# Altium schematic symbol library ic.SchLib: 16 symbols
Pins are listed as number, name and electrical type; pins without a type are passive.

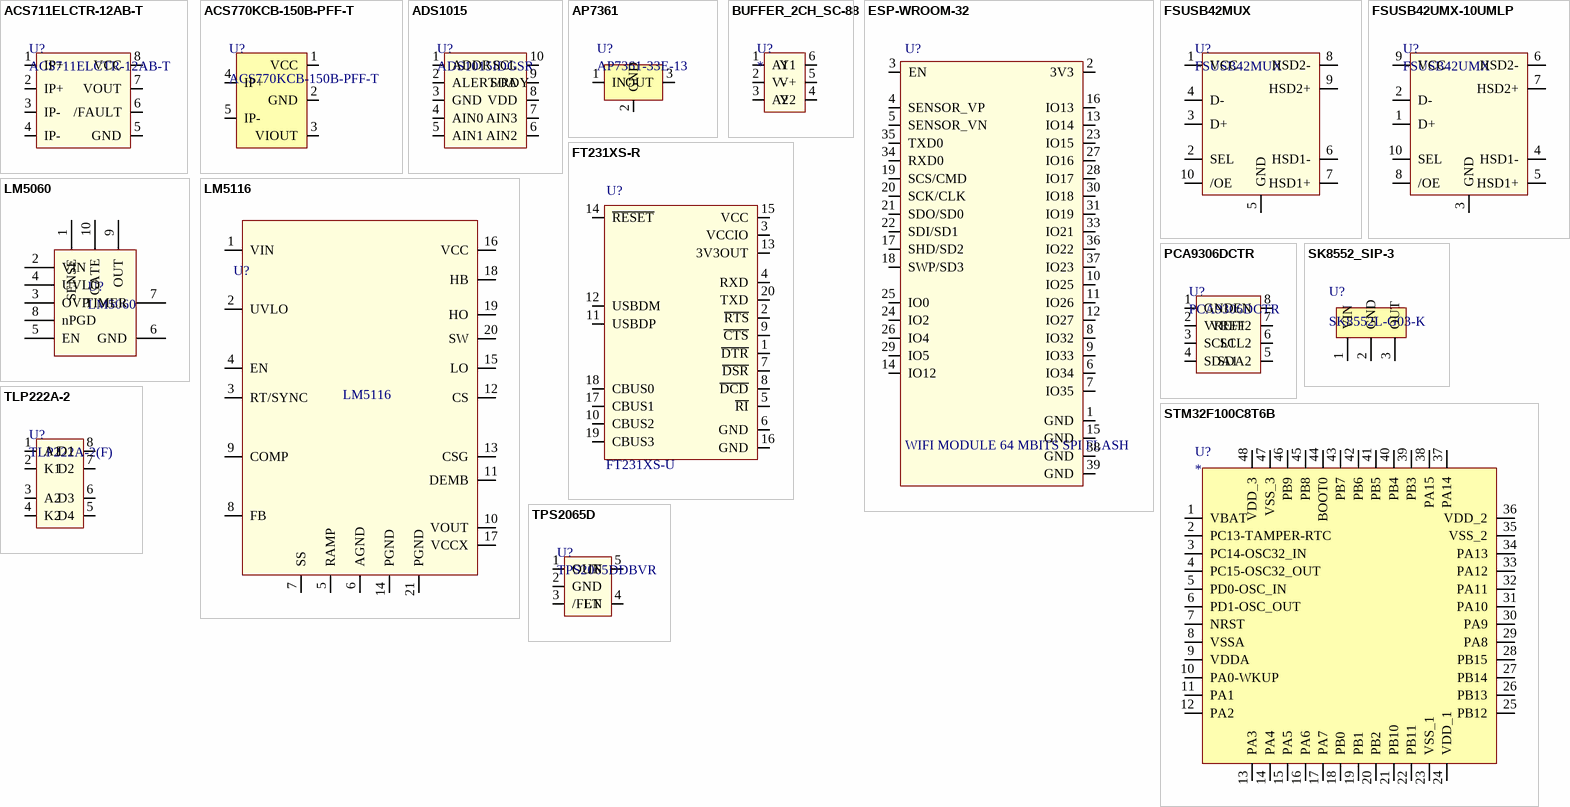
[diagram p0: symbols ACS711ELCTR-12AB-T to TPS2065D]

## ACS711ELCTR-12AB-T
designator U?
Current Sensor 12.5A 1 Channel Hall Effect, Open Loop Bidirectional 8-SOIC (0.154", 3.90mm Width); Manufacturer 1: Allegro MicroSystems, LLC; Manufacturer Part Number 1: ACS711ELCTR-12AB-T; Supplier 1: Digi-Key; Supplier Part Number 1: 620-1370-1-ND
footprint SOIC-8
pins: 1 IP+, 2 IP+, 3 IP-, 4 IP-, 5 GND, 6 /FAULT, 7 VOUT, 8 VCC

## ACS770KCB-150B-PFF-T
designator U?
Current Sensor 150A 1 Channel Hall Effect, Open Loop Bidirectional 5-CB Formed Leads, PFF; Manufacturer 1: Allegro MicroSystems, LLC; Manufacturer Part Number 1: ACS770KCB-150B-PFF-T; Supplier Part Number 1: 620-1540-5-ND; Supplier 1: Digi-Key
footprint ACS781LLRTR-100B-T
pins: 1 VCC, 2 GND, 3 VIOUT, 4 IP+, 5 IP-

## ADS1015
designator U?, comment ADS1015IDGSR
IC ADC 12BIT SIGMA-DELTA 10VSSOP; Manufacturer 1: Texas Instruments; Manufacturer Part Number 1: ADS1015IDGSR; Supplier 1: Digi-Key; Supplier Part Number 1: 296-41185-1-ND
footprint MSOP-10
pins: 1 ADDR, 2 ALERT/RDY, 3 GND, 4 AIN0, 5 AIN1, 6 AIN2, 7 AIN3, 8 VDD, 9 SDA, 10 SCL

## AP7361
designator U?, comment AP7361-33E-13
IC REG LINEAR 3.3V 1A SOT223; Manufacturer 1: Diodes Incorporated; Manufacturer Part Number 1: AP7361-33E-13; Supplier Part Number 1: AP7361-33E-13DICT-ND; Supplier 1: Digi-Key
footprint SOT-223
pins: 1 IN, 2 GND, 3 OUT

## BUFFER_2CH_SC-88
designator U?
Manufacturer 1: *; Manufacturer Part Number 1: *; Supplier Part Number 1: *; Parameter 4: *
footprint SC-88
pins: 1 A1, 2 V-, 3 A2, 4 Y2, 5 V+, 6 Y1

## ESP-WROOM-32
designator U?, comment WIFI MODULE 64 MBITS SPI FLASH
Manufacturer 1: Espressif Systems; Manufacturer Part Number 1: ESP32-WROOM-32 (8MB); Supplier Part Number 1: 1904-1019-1-ND; Supplier 1: Digi-Key
footprint ESP32-WROOM-32
pins: 1 GND, 2 3V3, 3 EN, 4 SENSOR_VP, 5 SENSOR_VN, 6 IO34, 7 IO35, 8 IO32, 9 IO33, 10 IO25, 11 IO26, 12 IO27, 13 IO14, 14 IO12, 15 GND, 16 IO13, 17 SHD/SD2, 18 SWP/SD3, 19 SCS/CMD, 20 SCK/CLK, 21 SDO/SD0, 22 SDI/SD1, 23 IO15, 24 IO2, 25 IO0, 26 IO4, 27 IO16, 28 IO17, 29 IO5, 30 IO18, 31 IO19, 33 IO21, 34 RXD0, 35 TXD0, 36 IO22, 37 IO23, 38 GND, 39 GND

## FSUSB42MUX
designator U?
IC USB SWITCH DPDT 10MSOP; Manufacturer 1: ON Semiconductor; Manufacturer Part Number 1: FSUSB42MUX; Supplier 1: Digi-Key; Supplier Part Number 1: FSUSB42MUXCT-ND
footprint MSOP-10
pins: 1 VCC, 2 SEL, 3 D+, 4 D-, 5 GND, 6 HSD1-, 7 HSD1+, 8 HSD2-, 9 HSD2+, 10 /OE

## FSUSB42UMX-10UMLP
designator U?, comment FSUSB42UMX
IC USB SWITCH DPDT 10UMLP; Manufacturer 1: ON Semiconductor; Manufacturer Part Number 1: FSUSB42UMX; Supplier 1: Digi-Key; Supplier Part Number 1: FSUSB42UMXCT-ND
footprint UFQFN-10
pins: 1 D+, 2 D-, 3 GND, 4 HSD1-, 5 HSD1+, 6 HSD2-, 7 HSD2+, 8 /OE, 9 VCC, 10 SEL

## FT231XS-R
designator U?, comment FT231XS-U
IC USB SERIAL FULL UART 20SSOP; Manufacturer 1: FTDI, Future Technology Devices International Ltd; Manufacturer Part Number 1: FT231XS-U; Supplier 1: Digi-Key; Supplier Part Number 1: 768-1156-5-ND
footprint SSOP-20
pins: 1 ~{DTR}, 2 ~{RTS}, 3 VCCIO, 4 RXD, 5 ~{RI}, 6 GND, 7 ~{DSR}, 8 ~{DCD}, 9 ~{CTS}, 10 CBUS2, 11 USBDP, 12 USBDM, 13 3V3OUT, 14 ~{RESET}, 15 VCC, 16 GND, 17 CBUS1, 18 CBUS0, 19 CBUS3, 20 TXD

## LM5060
designator U?
High-Side Gate Driver IC Non-Inverting 10-VSSOP; Part Number: LM5060MM/NOPB; Manufacturer: Texas Instruments; ComponentLink1Description: Datasheet; ComponentLink1URL: http://www.ti.com/lit/ds/symlink/lm5060.pdf; Supplier 1: Digi-Key; Supplier 1 Part Number: 296-39024-1-ND
footprint VSSOP-10
pins: 1 SENSE, 2 VIN, 3 OVP, 4 UVLO, 5 EN, 6 GND, 7 TIMER, 8 nPGD, 9 OUT, 10 GATE

## LM5116
designator U?, comment LM5116MHX/NOPB  (value not drawn)
IC REG CTRLR BUCK 20TSSOP; Manufacturer 1: Texas Instruments; Manufacturer Part Number 1: LM5116MHX/NOPB; Supplier 1: Digi-Key; Supplier Part Number 1: LM5116MHX/NOPBCT-ND
footprint HTSSOP-20
pins: 1 VIN, 2 UVLO, 3 RT/SYNC, 4 EN, 5 RAMP, 6 AGND, 7 SS, 8 FB, 9 COMP, 10 VOUT, 11 DEMB, 12 CS, 13 CSG, 14 PGND, 15 LO, 16 VCC, 17 VCCX, 18 HB, 19 HO, 20 SW, 21 PGND

## PCA9306DCTR
designator U?
IC TRNSLTR BIDIRECTIONAL SM8; Manufacturer 1: Texas Instruments; Manufacturer Part Number 1: PCA9306DCTR; Supplier 1: Digi-Key; Supplier Part Number 1: 296-18509-1-ND
footprint MSOP-8
pins: 1 GND, 2 VREF1, 3 SCL1, 4 SDA1, 5 SDA2, 6 SCL2, 7 VREF2, 8 EN

## SK8552_SIP-3
designator U?, comment SK8552L-G03-K
Manufacturer 1: *; Manufacturer Part Number 1: *; Supplier 1: *; Supplier Part Number 1: *
footprint SIP-3
pins: 1 VIN, 2 GND, 3 OUT

## STM32F100C8T6B
designator U?
IC MCU 32BIT 64KB FLASH 48LQFP; Manufacturer 1: *; Manufacturer Part Number 1: *; Supplier Part Number 1: *; Supplier 1: *
footprint TQFN-48
pins: 1 VBAT, 2 PC13-TAMPER-RTC, 3 PC14-OSC32_IN, 4 PC15-OSC32_OUT, 5 PD0-OSC_IN, 6 PD1-OSC_OUT, 7 NRST, 8 VSSA, 9 VDDA, 10 PA0-WKUP, 11 PA1, 12 PA2, 13 PA3, 14 PA4, 15 PA5, 16 PA6, 17 PA7, 18 PB0, 19 PB1, 20 PB2, 21 PB10, 22 PB11, 23 VSS_1, 24 VDD_1, 25 PB12, 26 PB13, 27 PB14, 28 PB15, 29 PA8, 30 PA9, 31 PA10, 32 PA11, 33 PA12, 34 PA13, 35 VSS_2, 36 VDD_2, 37 PA14, 38 PA15, 39 PB3, 40 PB4, 41 PB5, 42 PB6, 43 PB7, 44 BOOT0, 45 PB8, 46 PB9, 47 VSS_3, 48 VDD_3

## TLP222A-2
designator U?, comment TLP222A-2(F)
SSR RELAY SPST-NO 500MA 0-60V; Manufacturer 1: Toshiba Semiconductor and Storage; Manufacturer Part Number 1: TLP222A-2(F); Supplier 1: Digi-Key; Supplier Part Number 1: TLP222A-2F-ND
footprint DIP-8
pins: 1 A1, 2 K1, 3 A2, 4 K2, 5 D4, 6 D3, 7 D2, 8 D1

## TPS2065D
designator U?, comment TPS2065DDBVR
IC PWR SWITCH N-CHAN 1:1 SOT23-5; Manufacturer 1: Texas Instruments; Manufacturer Part Number 1: TPS2065DDBVR; Supplier 1: Digi-Key; Supplier Part Number 1: 296-47365-1-ND
footprint SOT-23-5
pins: 1 OUT, 2 GND, 3 /FLT, 4 EN, 5 IN